# EAGLE library part STM32F429I (library STM32F429I-DISC1)
STM32F429I-Disc1 Empreinte physique et shématique de la STM32F429I. Créé par Lucas EHLINGER élève à l'ENSEA Cergy-Pontoise en Mai 2017.
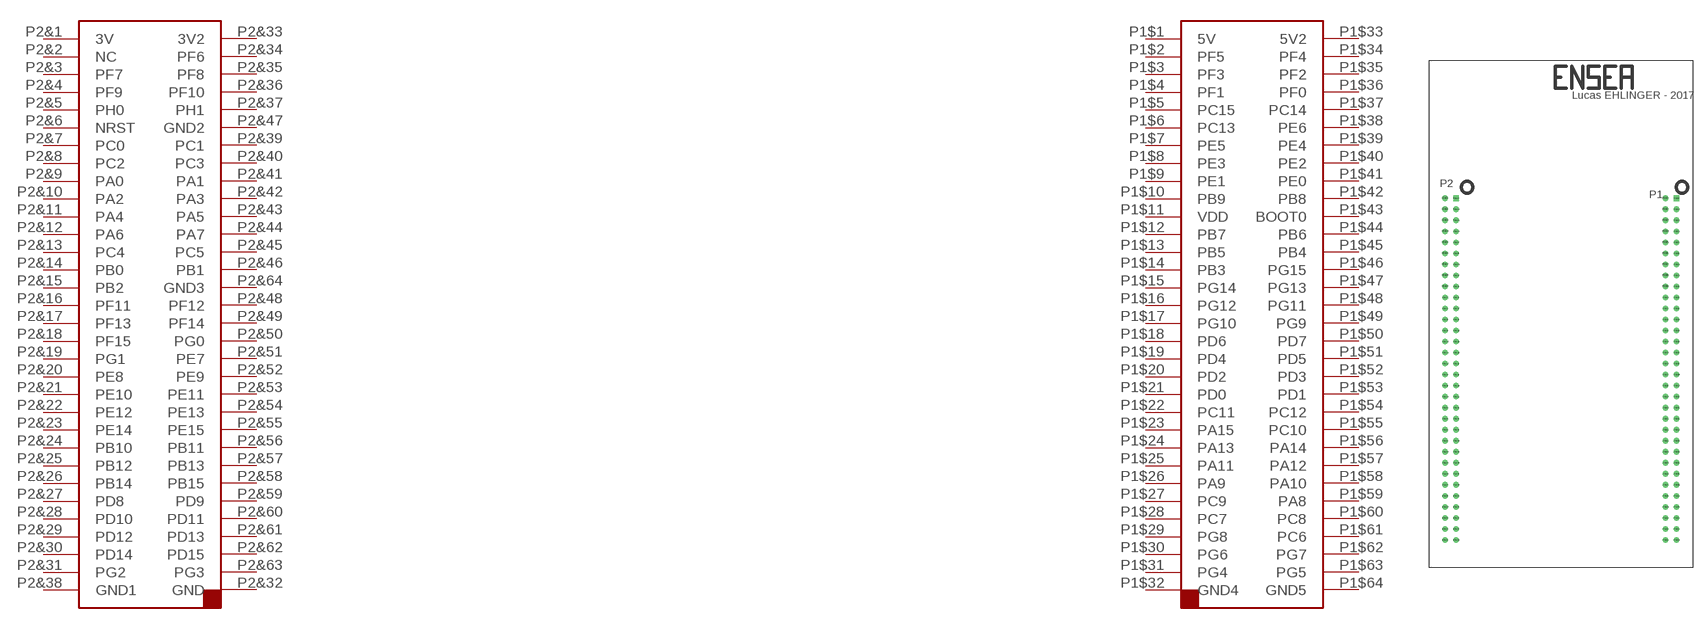
[diagram p0: symbol with the pads of STM32F429I-DISCOVERY; footprint STM32F429I-DISCOVERY]

Designator prefix -

## STM32F429I"  [STM32F429I-DISCOVERY]
P1$1  5V
P1$2  PF5
P1$3  PF3
P1$4  PF1
P1$5  PC15
P1$6  PC13
P1$7  PE5
P1$8  PE3
P1$9  PE1
P1$10  PB9
P1$11  VDD
P1$12  PB7
P1$13  PB5
P1$14  PB3
P1$15  PG14
P1$16  PG12
P1$17  PG10
P1$18  PD6
P1$19  PD4
P1$20  PD2
P1$21  PD0
P1$22  PC11
P1$23  PA15
P1$24  PA13
P1$25  PA11
P1$26  PA9
P1$27  PC9
P1$28  PC7
P1$29  PG8
P1$30  PG6
P1$31  PG4
P1$32  GND4
P1$33  5V2
P1$34  PF4
P1$35  PF2
P1$36  PF0
P1$37  PC14
P1$38  PE6
P1$39  PE4
P1$40  PE2
P1$41  PE0
P1$42  PB8
P1$43  BOOT0
P1$44  PB6
P1$45  PB4
P1$46  PG15
P1$47  PG13
P1$48  PG11
P1$49  PG9
P1$50  PD7
P1$51  PD5
P1$52  PD3
P1$53  PD1
P1$54  PC12
P1$55  PC10
P1$56  PA14
P1$57  PA12
P1$58  PA10
P1$59  PA8
P1$60  PC8
P1$61  PC6
P1$62  PG7
P1$63  PG5
P1$64  GND5
P2&1  3V
P2&2  NC
P2&3  PF7
P2&4  PF9
P2&5  PH0
P2&6  NRST
P2&7  PC0
P2&8  PC2
P2&9  PA0
P2&10  PA2
P2&11  PA4
P2&12  PA6
P2&13  PC4
P2&14  PB0
P2&15  PB2
P2&16  PF11
P2&17  PF13
P2&18  PF15
P2&19  PG1
P2&20  PE8
P2&21  PE10
P2&22  PE12
P2&23  PE14
P2&24  PB10
P2&25  PB12
P2&26  PB14
P2&27  PD8
P2&28  PD10
P2&29  PD12
P2&30  PD14
P2&31  PG2
P2&32  GND
P2&33  3V2
P2&34  PF6
P2&35  PF8
P2&36  PF10
P2&37  PH1
P2&38  GND1
P2&39  PC1
P2&40  PC3
P2&41  PA1
P2&42  PA3
P2&43  PA5
P2&44  PA7
P2&45  PC5
P2&46  PB1
P2&47  GND2
P2&48  PF12
P2&49  PF14
P2&50  PG0
P2&51  PE7
P2&52  PE9
P2&53  PE11
P2&54  PE13
P2&55  PE15
P2&56  PB11
P2&57  PB13
P2&58  PB15
P2&59  PD9
P2&60  PD11
P2&61  PD13
P2&62  PD15
P2&63  PG3
P2&64  GND3

## Footprint STM32F429I-DISCOVERY (pad centres in mm)
STM32F429I-Disc1 Empreinte physique de la STM32F429I réé à partir de l'empreinte de la STM32F4-DISCOVERY. Créé par Lucas EHLINGER élève à l'ENSEA Cergy-Pontoise en Mai 2017.
drill 0.8: P1$1 22.86,41.91; P1$2 22.86,39.37; P1$3 22.86,36.83; P1$4 22.86,34.29; P1$5 22.86,31.75; P1$6 22.86,29.21; P1$7 22.86,26.67; P1$8 22.86,24.13; P1$9 22.86,21.59; P1$10 22.86,19.05; P1$11 22.86,16.51; P1$12 22.86,13.97; P1$13 22.86,11.43; P1$14 22.86,8.89; P1$15 22.86,6.35; P1$16 22.86,3.81; P1$17 22.86,1.27; P1$18 22.86,-1.27; P1$19 22.86,-3.81; P1$20 22.86,-6.35; P1$21 22.86,-8.89; P1$22 22.86,-11.43; P1$23 22.86,-13.97; P1$24 22.86,-16.51; P1$25 22.86,-19.05; P1$26 22.86,-21.59; P1$27 22.86,-24.13; P1$28 22.86,-26.67; P1$29 22.86,-29.21; P1$30 22.86,-31.75; P1$31 22.86,-34.29; P1$32 22.86,-36.83; P1$34 25.4,39.37; P1$35 25.4,36.83; P1$36 25.4,34.29; P1$37 25.4,31.75; P1$38 25.4,29.21; P1$39 25.4,26.67; P1$40 25.4,24.13; P1$41 25.4,21.59; P1$42 25.4,19.05; P1$43 25.4,16.51; P1$44 25.4,13.97; P1$45 25.4,11.43; P1$46 25.4,8.89; P1$47 25.4,6.35; P1$48 25.4,3.81; P1$49 25.4,1.27; P1$50 25.4,-1.27; P1$51 25.4,-3.81; P1$52 25.4,-6.35; P1$53 25.4,-8.89; P1$54 25.4,-11.43; P1$55 25.4,-13.97; P1$56 25.4,-16.51; P1$57 25.4,-19.05; P1$58 25.4,-21.59; P1$59 25.4,-24.13; P1$60 25.4,-26.67; P1$61 25.4,-29.21; P1$62 25.4,-31.75; P1$63 25.4,-34.29; P1$64 25.4,-36.83; P2&1 -27.94,41.91; P2&2 -27.94,39.37; P2&3 -27.94,36.83; P2&4 -27.94,34.29; P2&5 -27.94,31.75; P2&6 -27.94,29.21; P2&7 -27.94,26.67; P2&8 -27.94,24.13; P2&9 -27.94,21.59; P2&10 -27.94,19.05; P2&11 -27.94,16.51; P2&12 -27.94,13.97; P2&13 -27.94,11.43; P2&14 -27.94,8.89; P2&15 -27.94,6.35; P2&16 -27.94,3.81; P2&17 -27.94,1.27; P2&18 -27.94,-1.27; P2&19 -27.94,-3.81; P2&20 -27.94,-6.35; P2&21 -27.94,-8.89; P2&22 -27.94,-11.43; P2&23 -27.94,-13.97; P2&24 -27.94,-16.51; P2&25 -27.94,-19.05; P2&26 -27.94,-21.59; P2&27 -27.94,-24.13; P2&28 -27.94,-26.67; P2&29 -27.94,-29.21; P2&30 -27.94,-31.75; P2&31 -27.94,-34.29; P2&32 -27.94,-36.83; P2&34 -25.4,39.37; P2&35 -25.4,36.83; P2&36 -25.4,34.29; P2&37 -25.4,31.75; P2&38 -25.4,29.21; P2&39 -25.4,26.67; P2&40 -25.4,24.13; P2&41 -25.4,21.59; P2&42 -25.4,19.05; P2&43 -25.4,13.97; P2&44 -25.4,11.43; P2&45 -25.4,8.89; P2&46 -25.4,6.35; P2&47 -25.4,3.81; P2&48 -25.4,1.27; P2&49 -25.4,-1.27; P2&50 -25.4,-3.81; P2&51 -25.4,-6.35; P2&52 -25.4,-8.89; P2&53 -25.4,-11.43; P2&54 -25.4,-13.97; P2&55 -25.4,-16.51; P2&56 -25.4,-19.05; P2&57 -25.4,16.51; P2&58 -25.4,-21.59; P2&59 -25.4,-24.13; P2&60 -25.4,-26.67; P2&61 -25.4,-29.21; P2&62 -25.4,-31.75; P2&63 -25.4,-34.29; P2&64 -25.4,-36.83
drill 0.8 square: P1$33 25.4,41.91; P2&33 -25.4,41.91